# EAGLE library part LTC3260 (library ck)
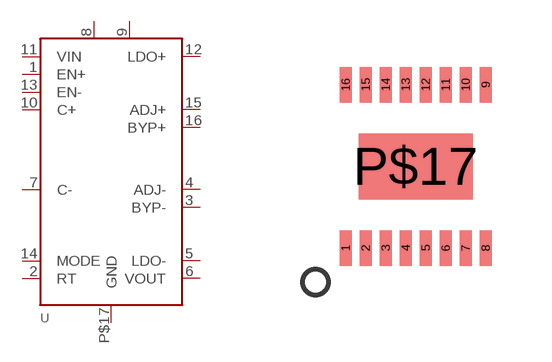
[diagram p24: symbol with the pads of 16-MSOP-EP; footprint 16-MSOP-EP]

Designator prefix U

## LTC3260  [16-MSOP-EP]
1  EN+
2  RT
3  BYP-
4  ADJ-
5  LDO-
6  VOUT
7  C-
8  NC8
9  NC9
10  C+
11  VIN
12  LDO+
13  EN-
14  MODE
15  ADJ+
16  BYP+
P$17  GND

## Footprint 16-MSOP-EP (pad centres in mm)
smd 0.305 x 0.889: 1 -1.75,-2.045; 2 -1.25,-2.045; 3 -0.75,-2.045; 4 -0.25,-2.045; 5 0.25,-2.045; 6 0.75,-2.045; 7 1.25,-2.045; 8 1.75,-2.045; 9 1.75,2.045; 10 1.25,2.045; 11 0.75,2.045; 12 0.25,2.045; 13 -0.25,2.045; 14 -0.75,2.045; 15 -1.25,2.045; 16 -1.75,2.045
smd 2.845 x 1.651: P$17 0,0